# Altium schematic symbol library ANT.Schlib: 1 symbol
Pins are listed as number, name and electrical type; pins without a type are passive.

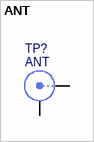
[diagram p0: symbol ANT]

## ANT
designator TP?
Soldered antenna PAD
pins: 1 X, 2 Y